# Altium footprint library Header 2x1 Battery.PcbLib: 1 footprints
Each footprint in its own frame and in the unit in brackets; x right, y up, seen from the top. Pads: shape width x height; smd on the part's side, far side on the other; paste and mask are expansions set on the pad; w line width, h text height; cw(c..) or ccw(c..) is an arc to the next point about the centre after c.
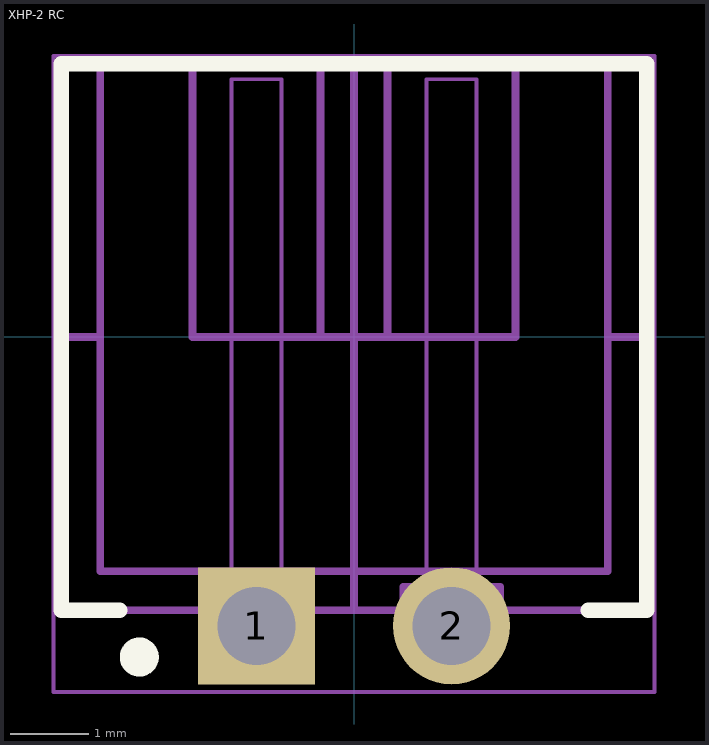
[diagram p0: the footprint, top view; thin cyan lines are the x and y axes]

## XHP-2 RC [mm] "XH RC-Type Connector, 2-Leads, Pitch 2.5mm, Height 5.8mm, Tail Length 3.4mm"
height 5.8
pads (2):
  rect 1.5x1.5 hole 1: 1(-1.25,-3.7)
  round 1.5 hole 1: 2(1.25,-3.7)
Top Overlay:
  circle w0.25: c-2.75,-4.1 r0.125
  lines w0.2: -3,-3.5 -3.75,-3.5 -3.75,3.5 3.75,3.5 3.75,-3.5 3,-3.5
Mechanical 13:
  lines w0.05: -1.57,-3.38 -0.93,-3.38 ; 0.93,-3.38 1.57,-3.38 ; -1.57,-4.02 -1.57,3.3 -0.93,3.3 -0.93,-4.02 -1.57,-4.02 ; 0.93,-4.02 0.93,3.3 1.57,3.3 1.57,-4.02 0.93,-4.02
  lines w0.1: -3.75,0 -3.25,0 ; -3.25,3.5 -3.25,-3 0,-3 ; -2.07,3.5 -2.07,0 -0.43,0 -0.43,3.5 ; 0.43,3.5 0.43,0 2.07,0 2.07,3.5 ; 3.25,0 3.75,0 ; 3.25,3.5 3.25,-3 0,-3 ; -1.87,-3.5 -3.75,-3.5 -3.75,3.5 0,3.5 ; -1.87,-3.5 -1.87,-3.2 -0.63,-3.2 -0.63,-3.5 ; -1.87,-3.5 -0.63,-3.5 ; -0.63,-3.5 0,-3.5 ; 0,-3.5 0.63,-3.5 ; 0,-3.5 0,-3 ; 0,-3.5 0,-3 ; 0,-3 0,3.5 ; 0,-3 0,3.5 ; 0,3.5 3.75,3.5 3.75,-3.5 1.87,-3.5 ; 0.63,-3.5 0.63,-3.2 1.87,-3.2 1.87,-3.5 ; 0.63,-3.5 1.87,-3.5
Mechanical 15:
  lines w0.05: -3.85,-4.55 -3.85,3.6 3.85,3.6 3.85,-4.55 -3.85,-4.55
  lines w0.1: -0.5,0 0.5,0 ; 0,-0.5 0,0.5
3D body: height 3.16, standoff -3.4, extent -1.57,-4.02 -0.93,-3.38
3D body: height 5.8, standoff 5.3, extent 0,-3 3.25,3.5
3D body: height 5.8, standoff 5.3, extent -3.25,-3 0,3.5
3D body: height 3.8, standoff 3.16, extent 0.93,-4.02 1.57,3.3
3D body: height 3.8, standoff 3.16, extent -1.57,-4.02 -0.93,3.3
3D body: height 3.16, standoff -3.4, extent 0.93,-4.02 1.57,-3.38
3D body: height 4.1, standoff 2.86, extent 0.63,-3.5 1.87,-3.2
3D body: height 5.8, standoff 4.8, extent 3.25,0 3.75,3.5
3D body: height 3.8, standoff 0, extent 3.25,0 3.75,3.5
3D body: height 5.8, standoff 0, extent 0,-3.5 3.75,0
3D body: height 0.5, standoff 0, extent 0,-3.5 3.75,3.5
3D body: height 0.5, standoff 0, extent -3.75,-3.5 0,3.5
3D body: height 5.8, standoff 0, extent -3.75,-3.5 0,0
3D body: height 3.8, standoff 0, extent -3.75,0 -3.25,3.5
3D body: height 5.8, standoff 4.8, extent -3.75,0 -3.25,3.5
3D body: height 4.1, standoff 2.86, extent -1.87,-3.5 -0.63,-3.2